# Altium schematic symbol library 3403.0166.24.SchLib: 1 symbol
Pins are listed as number, name and electrical type; pins without a type are passive.

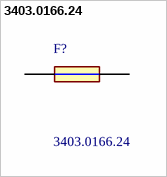
[diagram p0: symbol 3403.0166.24]

## 3403.0166.24
designator F?
UMT 250 Fuse T 1A L 250V AC; Manufacturer_Name: SCHURTER; Geometry.Height: 3mm; Manufacturer_Part_Number: 3403.0166.24; Mouser Part Number: 693-3403.0166.24; Mouser Price/Stock: https://www.mouser.co.uk/ProductDetail/Schurter/3403.0166.24?qs=WtG364jHAdwL4lK1GD3AKQ%3D%3D; Arrow Part Number: 3403.0166.24; Arrow Price/Stock: https://www.arrow.com/en/products/3403.0166.24/schurter?region=asia; Datasheet Link: https://www.schurter.com/en/datasheet/UMT_250
footprint 3403016624
pins: 1, 2